# EAGLE library part TCA9548A (library TCA9548A)
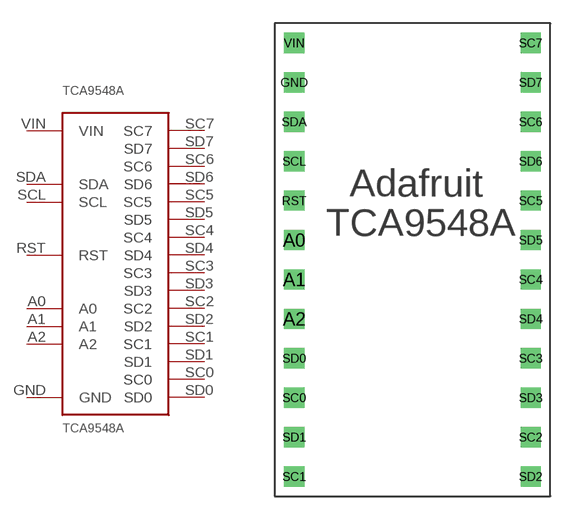
[diagram p0: symbol with the pads of TCA9548A; footprint TCA9548A]

Designator prefix TCA9548A

## TCA9548A  [TCA9548A]
A0  A0
A1  A1
A2  A2
GND  GND
RST  RST
SC0  SC0
SC1  SC1
SC2  SC2
SC3  SC3
SC4  SC4
SC5  SC5
SC6  SC6
SC7  SC7
SCL  SCL
SD0  SD0
SD1  SD1
SD2  SD2
SD3  SD3
SD4  SD4
SD5  SD5
SD6  SD6
SD7  SD7
SDA  SDA
VIN  VIN

## Footprint TCA9548A (pad centres in mm)
drill 0.8 square: A0 -7.62,1.27; A1 -7.62,-1.27; A2 -7.62,-3.81; GND -7.62,11.43; RST -7.62,3.81; SC0 -7.62,-8.89; SC1 -7.62,-13.97; SC2 7.62,-11.43; SC3 7.62,-6.35; SC4 7.62,-1.27; SC5 7.62,3.81; SC6 7.62,8.89; SC7 7.62,13.97; SCL -7.62,6.35; SD0 -7.62,-6.35; SD1 -7.62,-11.43; SD2 7.62,-13.97; SD3 7.62,-8.89; SD4 7.62,-3.81; SD5 7.62,1.27; SD6 7.62,6.35; SD7 7.62,11.43; SDA -7.62,8.89; VIN -7.62,13.97